# Altium schematic symbol library PCM1870RHFR.Schlib: 1 symbol
Pins are listed as number, name and electrical type; pins without a type are passive.

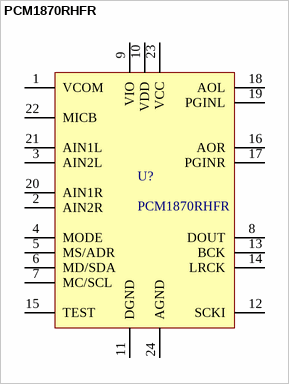
[diagram p0: symbol PCM1870RHFR]

## PCM1870RHFR
designator U?
IC ADC/AUD 16BIT 5K-50K 24VQFN
pins: 1 VCOM, 2 AIN2R, 3 AIN2L, 4 MODE, 5 MS/ADR, 6 MD/SDA, 7 MC/SCL, 8 DOUT, 9 VIO, 10 VDD, 11 DGND, 12 SCKI, 13 BCK, 14 LRCK, 15 TEST, 16 AOR, 17 PGINR, 18 AOL, 19 PGINL, 20 AIN1R, 21 AIN1L, 22 MICB, 23 VCC, 24 AGND